# EAGLE library part SM130-M2 (library sonmicro)
SM130-M2(2nd Generation module). Replacement for SM130(First Gen)
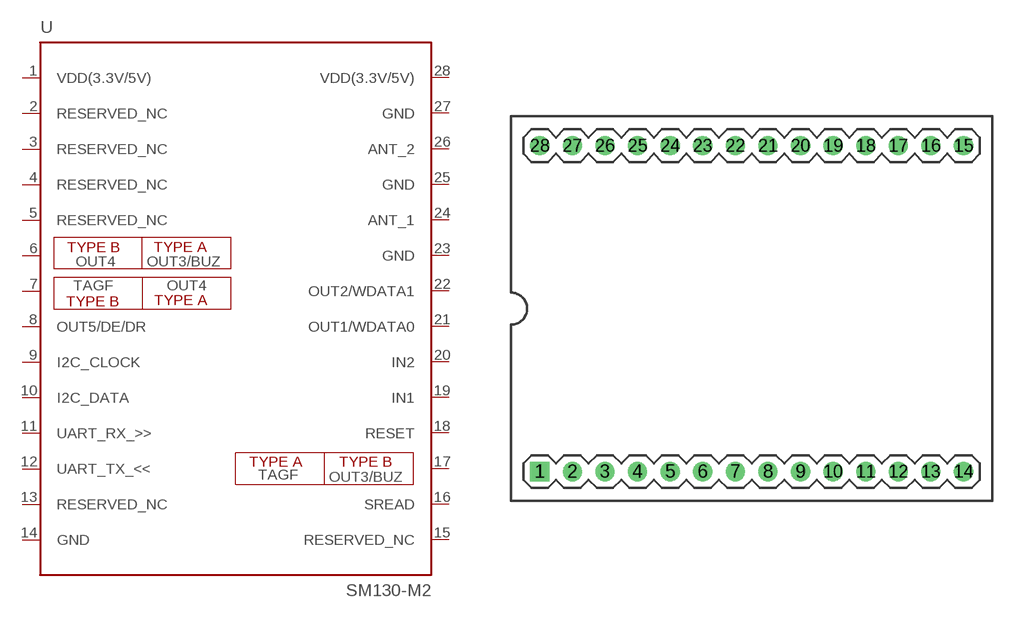
[diagram p5: symbol with the pads of SM130-M2; footprint SM130-M2]

Designator prefix -

## SM130-M2  [SM130-M2]
1  VDD(3.3V/5V)  pas
2  RESERVED_NC  pas
3  RESERVED_NC  pas
4  RESERVED_NC  pas
5  RESERVED_NC  pas
6  OUT4/OUT3/BUZ  pas
7  TAGF/OUT4  pas
8  OUT5/DE/DR  pas
9  I2C_CLOCK  pas
10  I2C_DATA  pas
11  UART_RX_>>  pas
12  UART_TX_<<  pas
13  RESERVED_NC  pas
14  GND  pas
15  RESERVED_NC  pas
16  SREAD  pas
17  OUT3/BUZ/TAGF  pas
18  RESET  pas
19  IN1  pas
20  IN2  pas
21  OUT1/WDATA0  pas
22  OUT2/WDATA1  pas
23  GND  pas
24  ANT_1  pas
25  GND  pas
26  ANT_2  pas
27  GND  pas
28  VDD(3.3V/5V)  pas

## Footprint SM130-M2 (pad centres in mm)
28 pin 2.54mm pin pitch
drill 0.9 pad 1.5 square: 1 -16.51,-12.7
drill 0.9 pad 1.5: 2 -13.97,-12.7; 3 -11.43,-12.7; 4 -8.89,-12.7; 5 -6.35,-12.7; 6 -3.81,-12.7; 7 -1.27,-12.7; 8 1.27,-12.7; 9 3.81,-12.7; 10 6.35,-12.7; 11 8.89,-12.7; 12 11.43,-12.7; 13 13.97,-12.7; 14 16.51,-12.7; 15 16.51,12.7; 16 13.97,12.7; 17 11.43,12.7; 18 8.89,12.7; 19 6.35,12.7; 20 3.81,12.7; 21 1.27,12.7; 22 -1.27,12.7; 23 -3.81,12.7; 24 -6.35,12.7; 25 -8.89,12.7; 26 -11.43,12.7; 27 -13.97,12.7; 28 -16.51,12.7